# EAGLE library part A1101R09A (library RF_Modules_v4)
A1101R09A - Integrated Radio Technical Specifications: VCC: 1.8-3.6V Operating Temperature: -40°C to 85°C Digikey: 1173-1028-ND
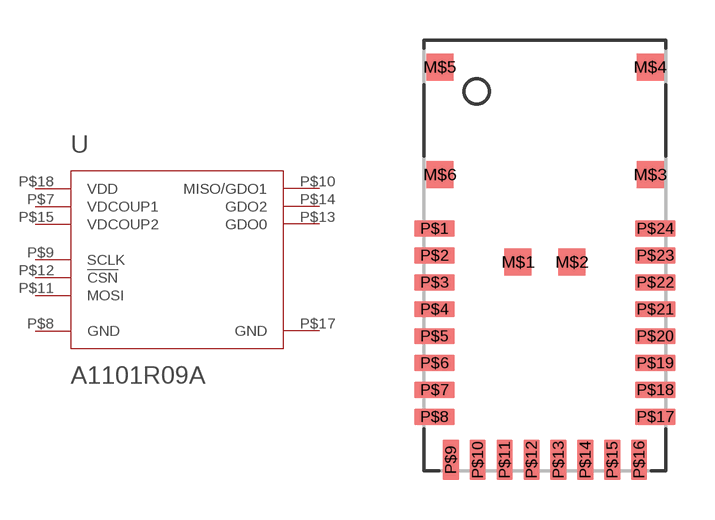
[diagram p0: symbol with the pads of A1101R09; footprint A1101R09]

Designator prefix U

## A1101R09A  [A1101R09]
P$7  VDCOUP1  pas
P$8  GND  pwr
P$9  SCLK  in
P$10  MISO/GDO1  out
P$11  MOSI  in
P$12  !CSN  in
P$13  GDO0
P$14  GDO2
P$15  VDCOUP2  pas
P$17  GND  pwr
P$18  VDD  pwr

## Footprint A1101R09 (pad centres in mm)
smd 1 x 1: M$1 -1,0; M$2 1,0; M$3 3.91,3.25; M$4 3.91,7.25; M$5 -3.91,7.25; M$6 -3.91,3.25
smd 1.5 x 0.61: P$1 -4.11,1.25; P$2 -4.11,0.25; P$3 -4.11,-0.75; P$4 -4.11,-1.75; P$5 -4.11,-2.75; P$6 -4.11,-3.75; P$7 -4.11,-4.75; P$8 -4.11,-5.75; P$17 4.1,-5.75; P$18 4.1,-4.75; P$19 4.1,-3.75; P$20 4.1,-2.75; P$21 4.1,-1.75; P$22 4.1,-0.75; P$23 4.1,0.25; P$24 4.1,1.25
smd 0.61 x 1.5: P$9 -3.5,-7.35; P$10 -2.5,-7.35; P$11 -1.5,-7.35; P$12 -0.5,-7.35; P$13 0.5,-7.35; P$14 1.5,-7.35; P$15 2.5,-7.35; P$16 3.5,-7.35